# Altium schematic symbol library yu0316-NSC_LDO.SchLib: 2590 symbols (part 49 of 64)
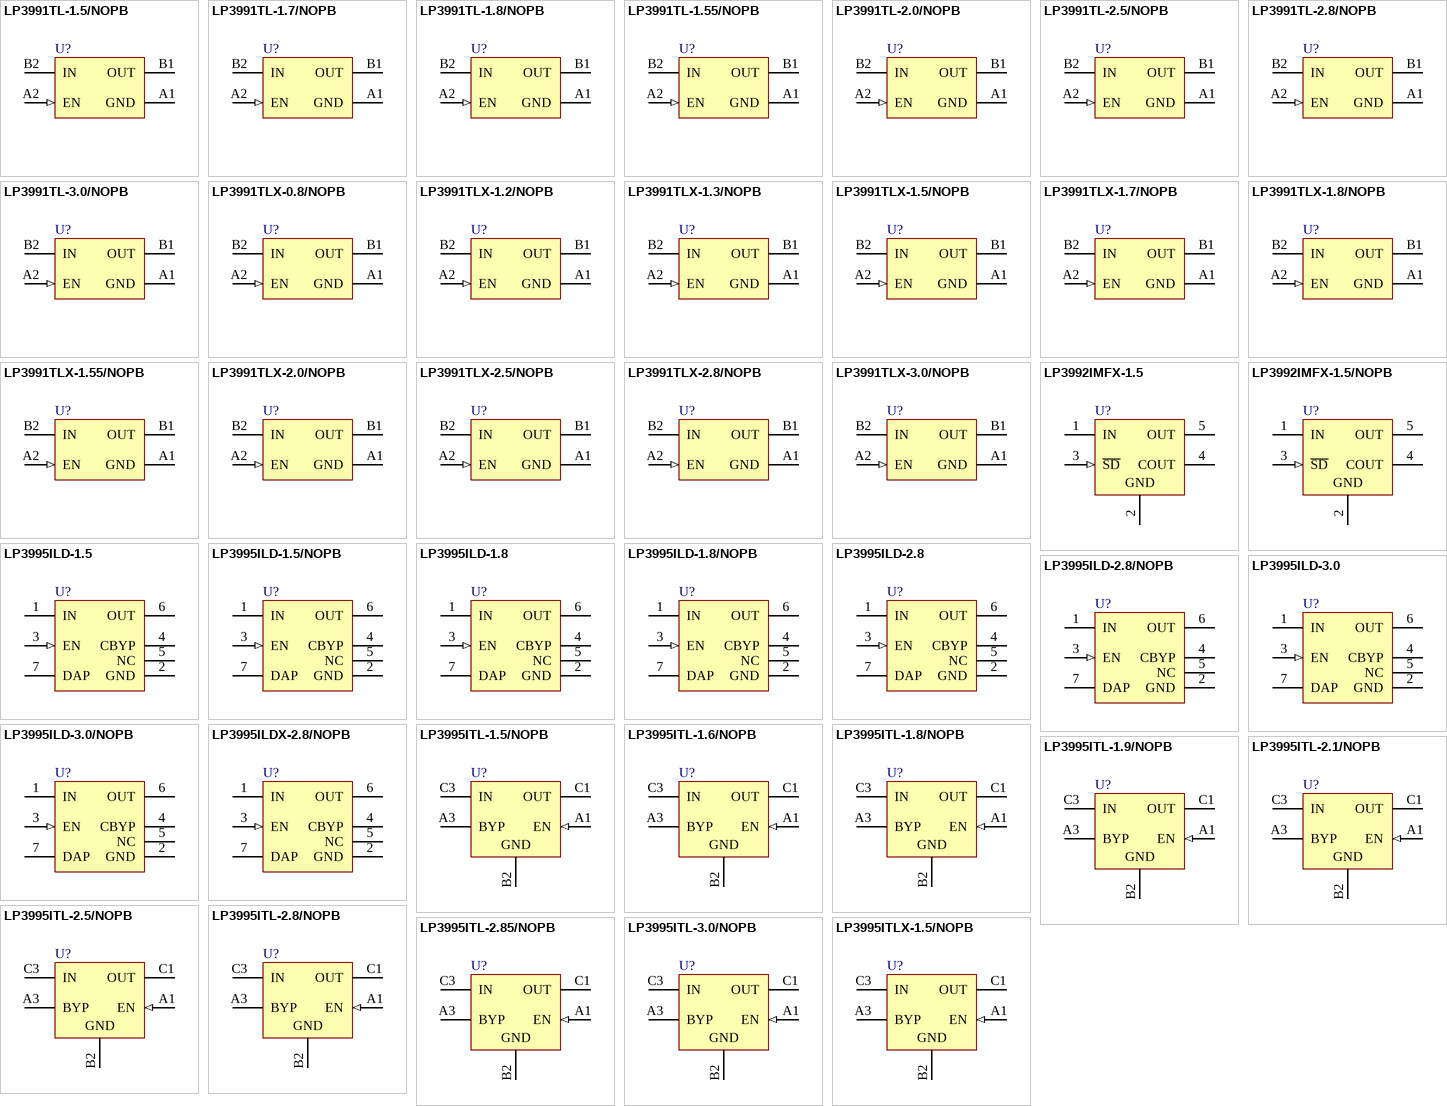
[diagram p113: symbols LP3991TL-1.5/NOPB to LP3995ITLX-1.5/NOPB]

## LP3995ILD-1.5
designator U?
Micropower 150mA CMOS Voltage Regulator with Active Shutdown., 6-pin LLP; PartNumber: LP3995ILD-1.5; Manufacturer: National Semiconductor; PackageTopMarking: ZXYTT*L020B; PowerWise: N; CompType: LDO IC; Published: 4-Dec-2008; DatasheetVersion: Jan-2008; PackageVersion: revA, Jul-2001; PackageReference: LDE06A; Publisher: Altium Limited; PackageDescription: LLP, Plastic, Dual, 2.92 x 3.29 x 0.75mm Body, 6 Lead, 0.95mm Pitch, SOT23 Land; Supplier 1: Farnell; Supplier Part Number 1: 8207259; RoHS: N; PinCount: 6; ComponentLink1Description: LP3995 Datasheet; ComponentLink1URL: http://www.national.com/ds/LP/LP3995.pdf; ComponentLink2Description: LP3995 Web Page; ComponentLink2URL: http://www.national.com/pf/LP/LP3995.html; ComponentLink3Description: LDE06A Package Page; ComponentLink3URL: http://www.national.com/packaging/folders/lde06a.html
footprint LDE06A (PSON, 6-Leads, Body 2.92x3.29 mm, Pitch 0.95mm, NSC Recommended)
pins: 1 IN (power), 2 GND (power), 3 EN (in), 4 CBYP, 5 NC, 6 OUT (power), 7 DAP (power)

## LP3995ILD-1.5/NOPB
designator U?
Micropower 150mA CMOS Voltage Regulator with Active Shutdown., 6-pin LLP, Pb-Free; PartNumber: LP3995ILD-1.5/NOPB; Manufacturer: National Semiconductor; PackageTopMarking: ZXYTT*L020B; PowerWise: N; CompType: LDO IC; Published: 1-Mar-2010; DatasheetVersion: Jan-2008; PackageVersion: revA, Jul-2001; PackageReference: LDE06A; Publisher: Altium Limited; PackageDescription: LLP, Plastic, Dual, 2.92 x 3.29 x 0.75mm Body, 6 Lead, 0.95mm Pitch, SOT23 Land; Supplier 1: Digi-Key; Supplier Part Number 1: LP3995ILD-1.5TR-ND; Supplier 2: Digi-Key; Supplier Part Number 2: LP3995ILD-1.5CT-ND; RoHS: Y; PinCount: 6; ComponentLink1Description: LP3995 Datasheet; ComponentLink1URL: http://www.national.com/ds/LP/LP3995.pdf; ComponentLink2Description: LP3995 Web Page; ComponentLink2URL: http://www.national.com/pf/LP/LP3995.html; ComponentLink3Description: LDE06A Package Page; ComponentLink3URL: http://www.national.com/packaging/folders/lde06a.html
footprint LDE06A (PSON, 6-Leads, Body 2.92x3.29 mm, Pitch 0.95mm, NSC Recommended)
pins: 1 IN (power), 2 GND (power), 3 EN (in), 4 CBYP, 5 NC, 6 OUT (power), 7 DAP (power)

## LP3995ILD-1.8
designator U?
Micropower 150mA CMOS Voltage Regulator with Active Shutdown., 6-pin LLP; PartNumber: LP3995ILD-1.8; Manufacturer: National Semiconductor; PackageTopMarking: ZXYTT*L022B; PowerWise: N; CompType: LDO IC; Published: 4-Dec-2008; DatasheetVersion: Jan-2008; PackageVersion: revA, Jul-2001; PackageReference: LDE06A; Publisher: Altium Limited; PackageDescription: LLP, Plastic, Dual, 2.92 x 3.29 x 0.75mm Body, 6 Lead, 0.95mm Pitch, SOT23 Land; Supplier 1: Farnell; Supplier Part Number 1: 8207275; RoHS: N; PinCount: 6; ComponentLink1Description: LP3995 Datasheet; ComponentLink1URL: http://www.national.com/ds/LP/LP3995.pdf; ComponentLink2Description: LP3995 Web Page; ComponentLink2URL: http://www.national.com/pf/LP/LP3995.html; ComponentLink3Description: LDE06A Package Page; ComponentLink3URL: http://www.national.com/packaging/folders/lde06a.html
footprint LDE06A (PSON, 6-Leads, Body 2.92x3.29 mm, Pitch 0.95mm, NSC Recommended)
pins: 1 IN (power), 2 GND (power), 3 EN (in), 4 CBYP, 5 NC, 6 OUT (power), 7 DAP (power)

## LP3995ILD-1.8/NOPB
designator U?
Micropower 150mA CMOS Voltage Regulator with Active Shutdown., 6-pin LLP, Pb-Free; PartNumber: LP3995ILD-1.8/NOPB; Manufacturer: National Semiconductor; PackageTopMarking: ZXYTT*L022B; PowerWise: N; CompType: LDO IC; Published: 1-Mar-2010; DatasheetVersion: Jan-2008; PackageVersion: revA, Jul-2001; PackageReference: LDE06A; Publisher: Altium Limited; PackageDescription: LLP, Plastic, Dual, 2.92 x 3.29 x 0.75mm Body, 6 Lead, 0.95mm Pitch, SOT23 Land; Supplier 1: Digi-Key; Supplier Part Number 1: LP3995ILD-1.8TR-ND; Supplier 2: Digi-Key; Supplier Part Number 2: LP3995ILD-1.8CT-ND; Supplier 3: Digi-Key; Supplier Part Number 3: LP3995ILD-1.8DKR-ND; RoHS: Y; PinCount: 6; ComponentLink1Description: LP3995 Datasheet; ComponentLink1URL: http://www.national.com/ds/LP/LP3995.pdf; ComponentLink2Description: LP3995 Web Page; ComponentLink2URL: http://www.national.com/pf/LP/LP3995.html; ComponentLink3Description: LDE06A Package Page; ComponentLink3URL: http://www.national.com/packaging/folders/lde06a.html
footprint LDE06A (PSON, 6-Leads, Body 2.92x3.29 mm, Pitch 0.95mm, NSC Recommended)
pins: 1 IN (power), 2 GND (power), 3 EN (in), 4 CBYP, 5 NC, 6 OUT (power), 7 DAP (power)

## LP3995ILD-2.8
designator U?
Micropower 150mA CMOS Voltage Regulator with Active Shutdown., 6-pin LLP; PartNumber: LP3995ILD-2.8; Manufacturer: National Semiconductor; PackageTopMarking: ZXYTT*L026B; PowerWise: N; CompType: LDO IC; Published: 4-Dec-2008; DatasheetVersion: Jan-2008; PackageVersion: revA, Jul-2001; PackageReference: LDE06A; Publisher: Altium Limited; PackageDescription: LLP, Plastic, Dual, 2.92 x 3.29 x 0.75mm Body, 6 Lead, 0.95mm Pitch, SOT23 Land; Supplier 1: Farnell; Supplier Part Number 1: 9490493; RoHS: N; PinCount: 6; ComponentLink1Description: LP3995 Datasheet; ComponentLink1URL: http://www.national.com/ds/LP/LP3995.pdf; ComponentLink2Description: LP3995 Web Page; ComponentLink2URL: http://www.national.com/pf/LP/LP3995.html; ComponentLink3Description: LDE06A Package Page; ComponentLink3URL: http://www.national.com/packaging/folders/lde06a.html
footprint LDE06A (PSON, 6-Leads, Body 2.92x3.29 mm, Pitch 0.95mm, NSC Recommended)
pins: 1 IN (power), 2 GND (power), 3 EN (in), 4 CBYP, 5 NC, 6 OUT (power), 7 DAP (power)

## LP3995ILD-2.8/NOPB
designator U?
Micropower 150mA CMOS Voltage Regulator with Active Shutdown., 6-pin LLP, Pb-Free; PartNumber: LP3995ILD-2.8/NOPB; Manufacturer: National Semiconductor; PackageTopMarking: ZXYTT*L026B; PowerWise: N; CompType: LDO IC; Published: 1-Mar-2010; DatasheetVersion: Jan-2008; PackageVersion: revA, Jul-2001; PackageReference: LDE06A; Publisher: Altium Limited; PackageDescription: LLP, Plastic, Dual, 2.92 x 3.29 x 0.75mm Body, 6 Lead, 0.95mm Pitch, SOT23 Land; Supplier 1: Digi-Key; Supplier Part Number 1: LP3995ILD-2.8TR-ND; Supplier 2: Digi-Key; Supplier Part Number 2: LP3995ILD-2.8CT-ND; Supplier 3: Digi-Key; Supplier Part Number 3: LP3995ILD-2.8DKR-ND; RoHS: Y; PinCount: 6; ComponentLink1Description: LP3995 Datasheet; ComponentLink1URL: http://www.national.com/ds/LP/LP3995.pdf; ComponentLink2Description: LP3995 Web Page; ComponentLink2URL: http://www.national.com/pf/LP/LP3995.html; ComponentLink3Description: LDE06A Package Page; ComponentLink3URL: http://www.national.com/packaging/folders/lde06a.html
footprint LDE06A (PSON, 6-Leads, Body 2.92x3.29 mm, Pitch 0.95mm, NSC Recommended)
pins: 1 IN (power), 2 GND (power), 3 EN (in), 4 CBYP, 5 NC, 6 OUT (power), 7 DAP (power)

## LP3995ILD-3.0
designator U?
Micropower 150mA CMOS Voltage Regulator with Active Shutdown., 6-pin LLP; PartNumber: LP3995ILD-3.0; Manufacturer: National Semiconductor; PackageTopMarking: ZXYTT*L030B; PowerWise: N; CompType: LDO IC; Published: 4-Dec-2008; DatasheetVersion: Jan-2008; PackageVersion: revA, Jul-2001; PackageReference: LDE06A; Publisher: Altium Limited; PackageDescription: LLP, Plastic, Dual, 2.92 x 3.29 x 0.75mm Body, 6 Lead, 0.95mm Pitch, SOT23 Land; Supplier 1: Farnell; Supplier Part Number 1: 8207283; RoHS: N; PinCount: 6; ComponentLink1Description: LP3995 Datasheet; ComponentLink1URL: http://www.national.com/ds/LP/LP3995.pdf; ComponentLink2Description: LP3995 Web Page; ComponentLink2URL: http://www.national.com/pf/LP/LP3995.html; ComponentLink3Description: LDE06A Package Page; ComponentLink3URL: http://www.national.com/packaging/folders/lde06a.html
footprint LDE06A (PSON, 6-Leads, Body 2.92x3.29 mm, Pitch 0.95mm, NSC Recommended)
pins: 1 IN (power), 2 GND (power), 3 EN (in), 4 CBYP, 5 NC, 6 OUT (power), 7 DAP (power)

## LP3995ILD-3.0/NOPB
designator U?
Micropower 150mA CMOS Voltage Regulator with Active Shutdown., 6-pin LLP, Pb-Free; PartNumber: LP3995ILD-3.0/NOPB; Manufacturer: National Semiconductor; PackageTopMarking: ZXYTT*L030B; PowerWise: N; CompType: LDO IC; Published: 1-Mar-2010; DatasheetVersion: Jan-2008; PackageVersion: revA, Jul-2001; PackageReference: LDE06A; Publisher: Altium Limited; PackageDescription: LLP, Plastic, Dual, 2.92 x 3.29 x 0.75mm Body, 6 Lead, 0.95mm Pitch, SOT23 Land; Supplier 1: Digi-Key; Supplier Part Number 1: LP3995ILD-3.0TR-ND; Supplier 2: Digi-Key; Supplier Part Number 2: LP3995ILD-3.0CT-ND; Supplier 3: Digi-Key; Supplier Part Number 3: LP3995ILD-3.0DKR-ND; RoHS: Y; PinCount: 6; ComponentLink1Description: LP3995 Datasheet; ComponentLink1URL: http://www.national.com/ds/LP/LP3995.pdf; ComponentLink2Description: LP3995 Web Page; ComponentLink2URL: http://www.national.com/pf/LP/LP3995.html; ComponentLink3Description: LDE06A Package Page; ComponentLink3URL: http://www.national.com/packaging/folders/lde06a.html
footprint LDE06A (PSON, 6-Leads, Body 2.92x3.29 mm, Pitch 0.95mm, NSC Recommended)
pins: 1 IN (power), 2 GND (power), 3 EN (in), 4 CBYP, 5 NC, 6 OUT (power), 7 DAP (power)

## LP3995ILDX-2.8/NOPB
designator U?
Micropower 150mA CMOS Voltage Regulator with Active Shutdown., 6-pin LLP, Pb-Free; PartNumber: LP3995ILDX-2.8/NOPB; Manufacturer: National Semiconductor; PackageTopMarking: ZXYTT*L026B; PowerWise: N; CompType: LDO IC; Published: 1-Mar-2010; DatasheetVersion: Jan-2008; PackageVersion: revA, Jul-2001; PackageReference: LDE06A; Publisher: Altium Limited; PackageDescription: LLP, Plastic, Dual, 2.92 x 3.29 x 0.75mm Body, 6 Lead, 0.95mm Pitch, SOT23 Land; Supplier 1: Digi-Key; Supplier Part Number 1: LP3995ILDX-2.8-ND; RoHS: Y; PinCount: 6; ComponentLink1Description: LP3995 Datasheet; ComponentLink1URL: http://www.national.com/ds/LP/LP3995.pdf; ComponentLink2Description: LP3995 Web Page; ComponentLink2URL: http://www.national.com/pf/LP/LP3995.html; ComponentLink3Description: LDE06A Package Page; ComponentLink3URL: http://www.national.com/packaging/folders/lde06a.html
footprint LDE06A (PSON, 6-Leads, Body 2.92x3.29 mm, Pitch 0.95mm, NSC Recommended)
pins: 1 IN (power), 2 GND (power), 3 EN (in), 4 CBYP, 5 NC, 6 OUT (power), 7 DAP (power)

## LP3995ITL-1.5/NOPB
designator U?
Micropower 150mA CMOS Voltage Regulator with Active Shutdown., 5-pin Micro SMD, Pb-Free; PartNumber: LP3995ITL-1.5/NOPB; Manufacturer: National Semiconductor; PackageTopMarking: XV*I 9; PowerWise: N; CompType: LDO IC; Published: 1-Mar-2010; DatasheetVersion: Jan-2008; PackageVersion: revC, Feb-2005; PackageReference: TLA05ADA; Publisher: Altium Limited; PackageDescription: Thin Micro SMD, 5 Bump (Large), 0.5mm Pitch; Supplier 1: Digi-Key; Supplier Part Number 1: LP3995ITL-1.5TR-ND; Supplier 2: Digi-Key; Supplier Part Number 2: LP3995ITL-1.5CT-ND; Supplier 3: Digi-Key; Supplier Part Number 3: LP3995ITL-1.5DKR-ND; RoHS: Y; PinCount: 5; ComponentLink1Description: LP3995 Datasheet; ComponentLink1URL: http://www.national.com/ds/LP/LP3995.pdf; ComponentLink2Description: LP3995 Web Page; ComponentLink2URL: http://www.national.com/pf/LP/LP3995.html; ComponentLink3Description: TLA05ADA Package Page; ComponentLink3URL: http://www.national.com/packaging/folders/tla05ada.html
footprint TLA05ADA (Micro SMD, 5-Leads, Body 1.45x1.01mm, Pitch 0.5mm, NSC Recommended)
pins: A1 EN (in), A3 BYP, B2 GND (power), C1 OUT (power), C3 IN (power)

## LP3995ITL-1.6/NOPB
designator U?
Micropower 150mA CMOS Voltage Regulator with Active Shutdown., 5-pin Micro SMD, Pb-Free; PartNumber: LP3995ITL-1.6/NOPB; Manufacturer: National Semiconductor; PackageTopMarking: XV*I 9; PowerWise: N; CompType: LDO IC; Published: 1-Mar-2010; DatasheetVersion: Jan-2008; PackageVersion: revC, Feb-2005; PackageReference: TLA05ADA; Publisher: Altium Limited; PackageDescription: Thin Micro SMD, 5 Bump (Large), 0.5mm Pitch; Supplier 1: Digi-Key; Supplier Part Number 1: LP3995ITL-1.6TR-ND; Supplier 2: Digi-Key; Supplier Part Number 2: LP3995ITL-1.6CT-ND; RoHS: Y; PinCount: 5; ComponentLink1Description: LP3995 Datasheet; ComponentLink1URL: http://www.national.com/ds/LP/LP3995.pdf; ComponentLink2Description: LP3995 Web Page; ComponentLink2URL: http://www.national.com/pf/LP/LP3995.html; ComponentLink3Description: TLA05ADA Package Page; ComponentLink3URL: http://www.national.com/packaging/folders/tla05ada.html
footprint TLA05ADA (Micro SMD, 5-Leads, Body 1.45x1.01mm, Pitch 0.5mm, NSC Recommended)
pins: A1 EN (in), A3 BYP, B2 GND (power), C1 OUT (power), C3 IN (power)

## LP3995ITL-1.8/NOPB
designator U?
Micropower 150mA CMOS Voltage Regulator with Active Shutdown., 5-pin Micro SMD, Pb-Free; PartNumber: LP3995ITL-1.8/NOPB; Manufacturer: National Semiconductor; PackageTopMarking: XV*I 9; PowerWise: N; CompType: LDO IC; Published: 1-Mar-2010; DatasheetVersion: Jan-2008; PackageVersion: revC, Feb-2005; PackageReference: TLA05ADA; Publisher: Altium Limited; PackageDescription: Thin Micro SMD, 5 Bump (Large), 0.5mm Pitch; Supplier 1: Digi-Key; Supplier Part Number 1: LP3995ITL-1.8TR-ND; Supplier 2: Digi-Key; Supplier Part Number 2: LP3995ITL-1.8CT-ND; Supplier 3: Digi-Key; Supplier Part Number 3: LP3995ITL-1.8DKR-ND; RoHS: Y; PinCount: 5; ComponentLink1Description: LP3995 Datasheet; ComponentLink1URL: http://www.national.com/ds/LP/LP3995.pdf; ComponentLink2Description: LP3995 Web Page; ComponentLink2URL: http://www.national.com/pf/LP/LP3995.html; ComponentLink3Description: TLA05ADA Package Page; ComponentLink3URL: http://www.national.com/packaging/folders/tla05ada.html
footprint TLA05ADA (Micro SMD, 5-Leads, Body 1.45x1.01mm, Pitch 0.5mm, NSC Recommended)
pins: A1 EN (in), A3 BYP, B2 GND (power), C1 OUT (power), C3 IN (power)

## LP3995ITL-1.9/NOPB
designator U?
Micropower 150mA CMOS Voltage Regulator with Active Shutdown., 5-pin Micro SMD, Pb-Free; PartNumber: LP3995ITL-1.9/NOPB; Manufacturer: National Semiconductor; PackageTopMarking: XV*I 9; PowerWise: N; CompType: LDO IC; Published: 1-Mar-2010; DatasheetVersion: Jan-2008; PackageVersion: revC, Feb-2005; PackageReference: TLA05ADA; Publisher: Altium Limited; PackageDescription: Thin Micro SMD, 5 Bump (Large), 0.5mm Pitch; Supplier 1: Digi-Key; Supplier Part Number 1: LP3995ITL-1.9TR-ND; Supplier 2: Digi-Key; Supplier Part Number 2: LP3995ITL-1.9CT-ND; Supplier 3: Digi-Key; Supplier Part Number 3: LP3995ITL-1.9DKR-ND; RoHS: Y; PinCount: 5; ComponentLink1Description: LP3995 Datasheet; ComponentLink1URL: http://www.national.com/ds/LP/LP3995.pdf; ComponentLink2Description: LP3995 Web Page; ComponentLink2URL: http://www.national.com/pf/LP/LP3995.html; ComponentLink3Description: TLA05ADA Package Page; ComponentLink3URL: http://www.national.com/packaging/folders/tla05ada.html
footprint TLA05ADA (Micro SMD, 5-Leads, Body 1.45x1.01mm, Pitch 0.5mm, NSC Recommended)
pins: A1 EN (in), A3 BYP, B2 GND (power), C1 OUT (power), C3 IN (power)

## LP3995ITL-2.1/NOPB
designator U?
Micropower 150mA CMOS Voltage Regulator with Active Shutdown., 5-pin Micro SMD, Pb-Free; PartNumber: LP3995ITL-2.1/NOPB; Manufacturer: National Semiconductor; PackageTopMarking: XV*I 9; PowerWise: N; CompType: LDO IC; Published: 1-Mar-2010; DatasheetVersion: Jan-2008; PackageVersion: revC, Feb-2005; PackageReference: TLA05ADA; Publisher: Altium Limited; PackageDescription: Thin Micro SMD, 5 Bump (Large), 0.5mm Pitch; Supplier 1: Digi-Key; Supplier Part Number 1: LP3995ITL-2.1TR-ND; Supplier 2: Digi-Key; Supplier Part Number 2: LP3995ITL-2.1CT-ND; Supplier 3: Digi-Key; Supplier Part Number 3: LP3995ITL-2.1DKR-ND; RoHS: Y; PinCount: 5; ComponentLink1Description: LP3995 Datasheet; ComponentLink1URL: http://www.national.com/ds/LP/LP3995.pdf; ComponentLink2Description: LP3995 Web Page; ComponentLink2URL: http://www.national.com/pf/LP/LP3995.html; ComponentLink3Description: TLA05ADA Package Page; ComponentLink3URL: http://www.national.com/packaging/folders/tla05ada.html
footprint TLA05ADA (Micro SMD, 5-Leads, Body 1.45x1.01mm, Pitch 0.5mm, NSC Recommended)
pins: A1 EN (in), A3 BYP, B2 GND (power), C1 OUT (power), C3 IN (power)

## LP3995ITL-2.5/NOPB
designator U?
Micropower 150mA CMOS Voltage Regulator with Active Shutdown., 5-pin Micro SMD, Pb-Free; PartNumber: LP3995ITL-2.5/NOPB; Manufacturer: National Semiconductor; PackageTopMarking: XV*I 9; PowerWise: N; CompType: LDO IC; Published: 1-Mar-2010; DatasheetVersion: Jan-2008; PackageVersion: revC, Feb-2005; PackageReference: TLA05ADA; Publisher: Altium Limited; PackageDescription: Thin Micro SMD, 5 Bump (Large), 0.5mm Pitch; Supplier 1: Digi-Key; Supplier Part Number 1: LP3995ITL-2.5TR-ND; Supplier 2: Digi-Key; Supplier Part Number 2: LP3995ITL-2.5CT-ND; Supplier 3: Digi-Key; Supplier Part Number 3: LP3995ITL-2.5DKR-ND; RoHS: Y; PinCount: 5; ComponentLink1Description: LP3995 Datasheet; ComponentLink1URL: http://www.national.com/ds/LP/LP3995.pdf; ComponentLink2Description: LP3995 Web Page; ComponentLink2URL: http://www.national.com/pf/LP/LP3995.html; ComponentLink3Description: TLA05ADA Package Page; ComponentLink3URL: http://www.national.com/packaging/folders/tla05ada.html
footprint TLA05ADA (Micro SMD, 5-Leads, Body 1.45x1.01mm, Pitch 0.5mm, NSC Recommended)
pins: A1 EN (in), A3 BYP, B2 GND (power), C1 OUT (power), C3 IN (power)

## LP3995ITL-2.8/NOPB
designator U?
Micropower 150mA CMOS Voltage Regulator with Active Shutdown., 5-pin Micro SMD, Pb-Free; PartNumber: LP3995ITL-2.8/NOPB; Manufacturer: National Semiconductor; PackageTopMarking: XV*I 9; PowerWise: N; CompType: LDO IC; Published: 1-Mar-2010; DatasheetVersion: Jan-2008; PackageVersion: revC, Feb-2005; PackageReference: TLA05ADA; Publisher: Altium Limited; PackageDescription: Thin Micro SMD, 5 Bump (Large), 0.5mm Pitch; Supplier 1: Digi-Key; Supplier Part Number 1: LP3995ITL-2.8TR-ND; Supplier 2: Digi-Key; Supplier Part Number 2: LP3995ITL-2.8CT-ND; Supplier 3: Digi-Key; Supplier Part Number 3: LP3995ITL-2.8DKR-ND; RoHS: Y; PinCount: 5; ComponentLink1Description: LP3995 Datasheet; ComponentLink1URL: http://www.national.com/ds/LP/LP3995.pdf; ComponentLink2Description: LP3995 Web Page; ComponentLink2URL: http://www.national.com/pf/LP/LP3995.html; ComponentLink3Description: TLA05ADA Package Page; ComponentLink3URL: http://www.national.com/packaging/folders/tla05ada.html
footprint TLA05ADA (Micro SMD, 5-Leads, Body 1.45x1.01mm, Pitch 0.5mm, NSC Recommended)
pins: A1 EN (in), A3 BYP, B2 GND (power), C1 OUT (power), C3 IN (power)

## LP3995ITL-2.85/NOPB
designator U?
Micropower 150mA CMOS Voltage Regulator with Active Shutdown., 5-pin Micro SMD, Pb-Free; PartNumber: LP3995ITL-2.85/NOPB; Manufacturer: National Semiconductor; PackageTopMarking: XV*I 9; PowerWise: N; CompType: LDO IC; Published: 1-Mar-2010; DatasheetVersion: Jan-2008; PackageVersion: revC, Feb-2005; PackageReference: TLA05ADA; Publisher: Altium Limited; PackageDescription: Thin Micro SMD, 5 Bump (Large), 0.5mm Pitch; Supplier 1: Digi-Key; Supplier Part Number 1: LP3995ITL-2.85TR-ND; Supplier 2: Digi-Key; Supplier Part Number 2: LP3995ITL-2.85CT-ND; Supplier 3: Digi-Key; Supplier Part Number 3: LP3995ITL-2.85DKR-ND; RoHS: Y; PinCount: 5; ComponentLink1Description: LP3995 Datasheet; ComponentLink1URL: http://www.national.com/ds/LP/LP3995.pdf; ComponentLink2Description: LP3995 Web Page; ComponentLink2URL: http://www.national.com/pf/LP/LP3995.html; ComponentLink3Description: TLA05ADA Package Page; ComponentLink3URL: http://www.national.com/packaging/folders/tla05ada.html
footprint TLA05ADA (Micro SMD, 5-Leads, Body 1.45x1.01mm, Pitch 0.5mm, NSC Recommended)
pins: A1 EN (in), A3 BYP, B2 GND (power), C1 OUT (power), C3 IN (power)

## LP3995ITL-3.0/NOPB
designator U?
Micropower 150mA CMOS Voltage Regulator with Active Shutdown., 5-pin Micro SMD, Pb-Free; PartNumber: LP3995ITL-3.0/NOPB; Manufacturer: National Semiconductor; PackageTopMarking: XV*I 9; PowerWise: N; CompType: LDO IC; Published: 1-Mar-2010; DatasheetVersion: Jan-2008; PackageVersion: revC, Feb-2005; PackageReference: TLA05ADA; Publisher: Altium Limited; PackageDescription: Thin Micro SMD, 5 Bump (Large), 0.5mm Pitch; Supplier 1: Digi-Key; Supplier Part Number 1: LP3995ITL-3.0TR-ND; Supplier 2: Digi-Key; Supplier Part Number 2: LP3995ITL-3.0CT-ND; Supplier 3: Digi-Key; Supplier Part Number 3: LP3995ITL-3.0DKR-ND; RoHS: Y; PinCount: 5; ComponentLink1Description: LP3995 Datasheet; ComponentLink1URL: http://www.national.com/ds/LP/LP3995.pdf; ComponentLink2Description: LP3995 Web Page; ComponentLink2URL: http://www.national.com/pf/LP/LP3995.html; ComponentLink3Description: TLA05ADA Package Page; ComponentLink3URL: http://www.national.com/packaging/folders/tla05ada.html
footprint TLA05ADA (Micro SMD, 5-Leads, Body 1.45x1.01mm, Pitch 0.5mm, NSC Recommended)
pins: A1 EN (in), A3 BYP, B2 GND (power), C1 OUT (power), C3 IN (power)

## LP3995ITLX-1.5/NOPB
designator U?
Micropower 150mA CMOS Voltage Regulator with Active Shutdown., 5-pin Micro SMD, Pb-Free; PartNumber: LP3995ITLX-1.5/NOPB; Manufacturer: National Semiconductor; PackageTopMarking: XV*I 9; PowerWise: N; CompType: LDO IC; Published: 1-Mar-2010; DatasheetVersion: Jan-2008; PackageVersion: revC, Feb-2005; PackageReference: TLA05ADA; Publisher: Altium Limited; PackageDescription: Thin Micro SMD, 5 Bump (Large), 0.5mm Pitch; Supplier 1: Digi-Key; Supplier Part Number 1: LP3995ITLX-1.5-ND; RoHS: Y; PinCount: 5; ComponentLink1Description: LP3995 Datasheet; ComponentLink1URL: http://www.national.com/ds/LP/LP3995.pdf; ComponentLink2Description: LP3995 Web Page; ComponentLink2URL: http://www.national.com/pf/LP/LP3995.html; ComponentLink3Description: TLA05ADA Package Page; ComponentLink3URL: http://www.national.com/packaging/folders/tla05ada.html
footprint TLA05ADA (Micro SMD, 5-Leads, Body 1.45x1.01mm, Pitch 0.5mm, NSC Recommended)
pins: A1 EN (in), A3 BYP, B2 GND (power), C1 OUT (power), C3 IN (power)

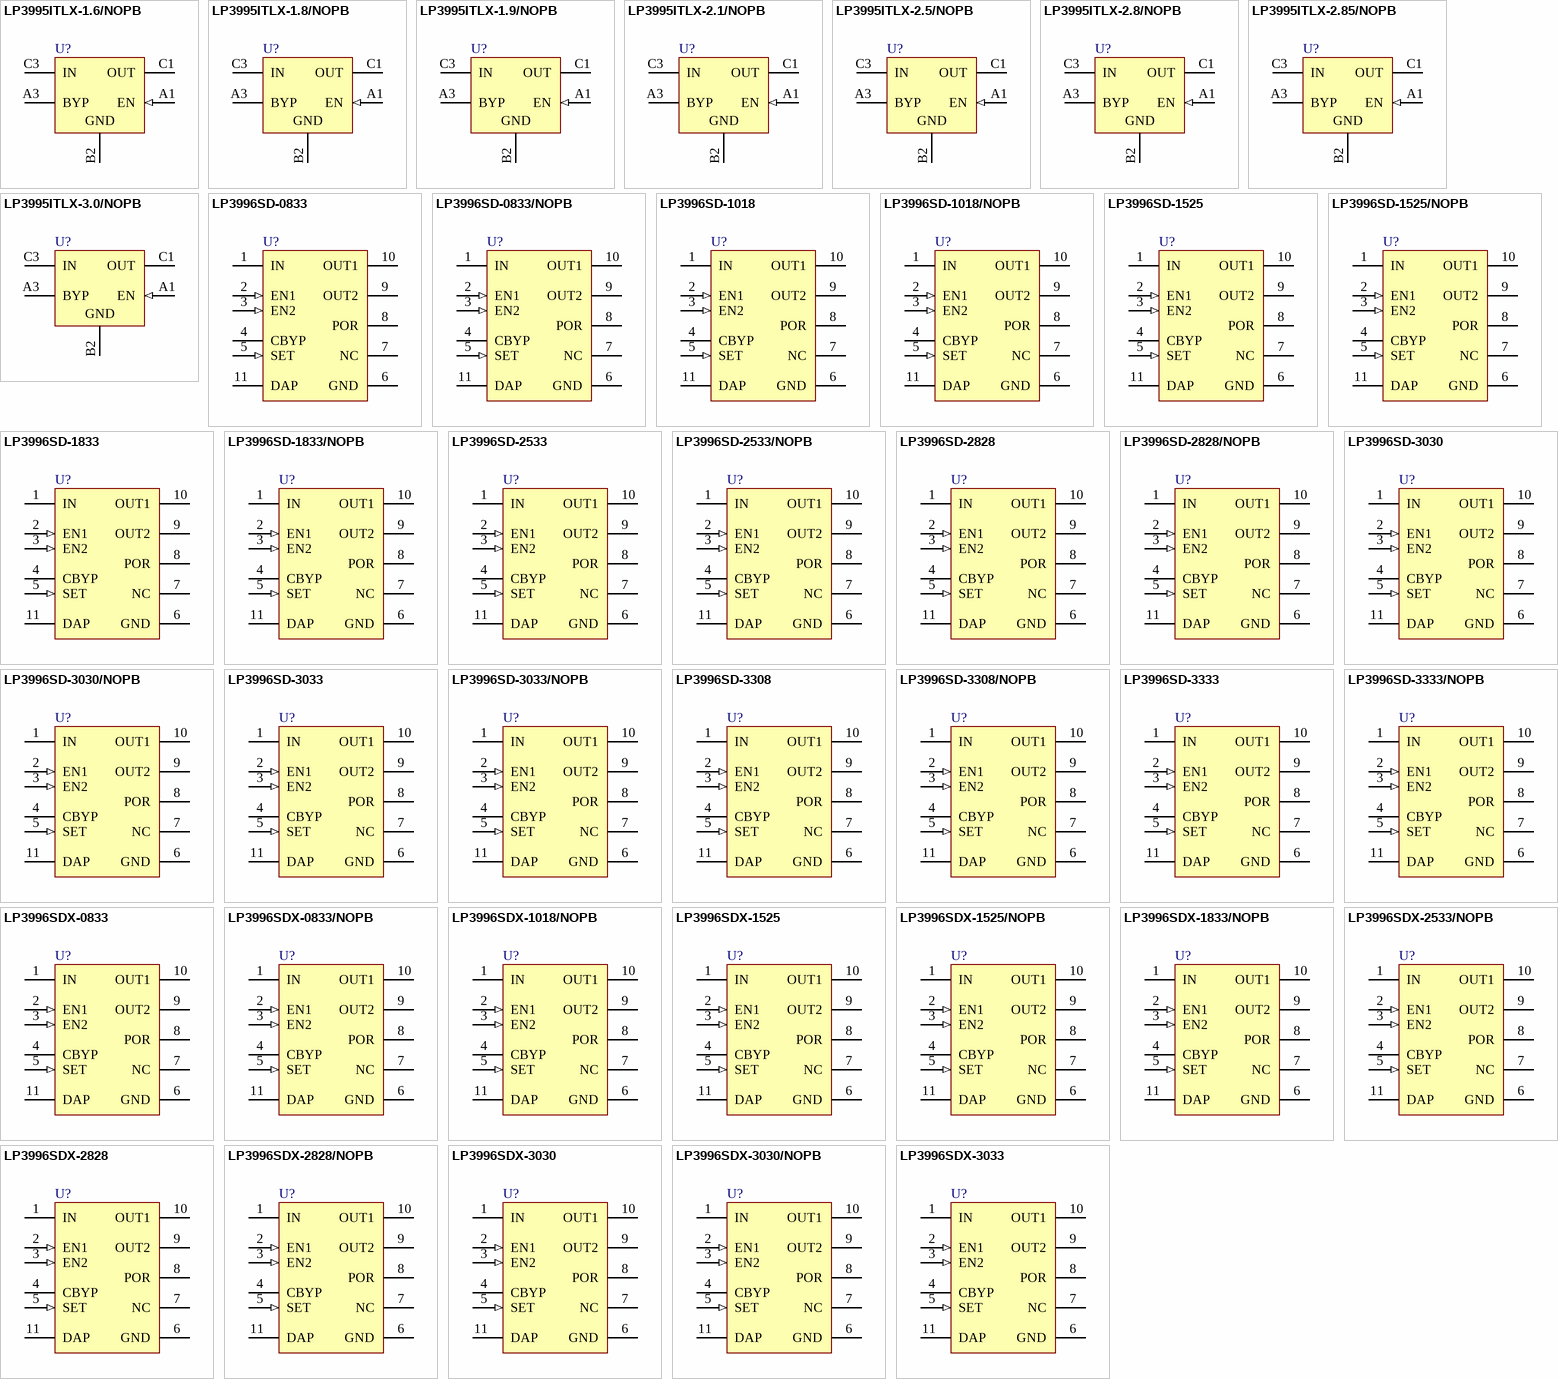
[diagram p50: symbols LP3995ITLX-1.6/NOPB to LP3996SDX-3033]

## LP3995ITLX-1.6/NOPB
designator U?
Micropower 150mA CMOS Voltage Regulator with Active Shutdown., 5-pin Micro SMD, Pb-Free; PartNumber: LP3995ITLX-1.6/NOPB; Manufacturer: National Semiconductor; PackageTopMarking: XV*I 9; PowerWise: N; CompType: LDO IC; Published: 1-Mar-2010; DatasheetVersion: Jan-2008; PackageVersion: revC, Feb-2005; PackageReference: TLA05ADA; Publisher: Altium Limited; PackageDescription: Thin Micro SMD, 5 Bump (Large), 0.5mm Pitch; Supplier 1: Digi-Key; Supplier Part Number 1: LP3995ITLX-1.6-ND; RoHS: Y; PinCount: 5; ComponentLink1Description: LP3995 Datasheet; ComponentLink1URL: http://www.national.com/ds/LP/LP3995.pdf; ComponentLink2Description: LP3995 Web Page; ComponentLink2URL: http://www.national.com/pf/LP/LP3995.html; ComponentLink3Description: TLA05ADA Package Page; ComponentLink3URL: http://www.national.com/packaging/folders/tla05ada.html
footprint TLA05ADA (Micro SMD, 5-Leads, Body 1.45x1.01mm, Pitch 0.5mm, NSC Recommended)
pins: A1 EN (in), A3 BYP, B2 GND (power), C1 OUT (power), C3 IN (power)

## LP3995ITLX-1.8/NOPB
designator U?
Micropower 150mA CMOS Voltage Regulator with Active Shutdown., 5-pin Micro SMD, Pb-Free; PartNumber: LP3995ITLX-1.8/NOPB; Manufacturer: National Semiconductor; PackageTopMarking: XV*I 9; PowerWise: N; CompType: LDO IC; Published: 1-Mar-2010; DatasheetVersion: Jan-2008; PackageVersion: revC, Feb-2005; PackageReference: TLA05ADA; Publisher: Altium Limited; PackageDescription: Thin Micro SMD, 5 Bump (Large), 0.5mm Pitch; Supplier 1: Digi-Key; Supplier Part Number 1: LP3995ITLX-1.8-ND; RoHS: Y; PinCount: 5; ComponentLink1Description: LP3995 Datasheet; ComponentLink1URL: http://www.national.com/ds/LP/LP3995.pdf; ComponentLink2Description: LP3995 Web Page; ComponentLink2URL: http://www.national.com/pf/LP/LP3995.html; ComponentLink3Description: TLA05ADA Package Page; ComponentLink3URL: http://www.national.com/packaging/folders/tla05ada.html
footprint TLA05ADA (Micro SMD, 5-Leads, Body 1.45x1.01mm, Pitch 0.5mm, NSC Recommended)
pins: A1 EN (in), A3 BYP, B2 GND (power), C1 OUT (power), C3 IN (power)

## LP3995ITLX-1.9/NOPB
designator U?
Micropower 150mA CMOS Voltage Regulator with Active Shutdown., 5-pin Micro SMD, Pb-Free; PartNumber: LP3995ITLX-1.9/NOPB; Manufacturer: National Semiconductor; PackageTopMarking: XV*I 9; PowerWise: N; CompType: LDO IC; Published: 1-Mar-2010; DatasheetVersion: Jan-2008; PackageVersion: revC, Feb-2005; PackageReference: TLA05ADA; Publisher: Altium Limited; PackageDescription: Thin Micro SMD, 5 Bump (Large), 0.5mm Pitch; Supplier 1: Digi-Key; Supplier Part Number 1: LP3995ITLX-1.9-ND; RoHS: Y; PinCount: 5; ComponentLink1Description: LP3995 Datasheet; ComponentLink1URL: http://www.national.com/ds/LP/LP3995.pdf; ComponentLink2Description: LP3995 Web Page; ComponentLink2URL: http://www.national.com/pf/LP/LP3995.html; ComponentLink3Description: TLA05ADA Package Page; ComponentLink3URL: http://www.national.com/packaging/folders/tla05ada.html
footprint TLA05ADA (Micro SMD, 5-Leads, Body 1.45x1.01mm, Pitch 0.5mm, NSC Recommended)
pins: A1 EN (in), A3 BYP, B2 GND (power), C1 OUT (power), C3 IN (power)

## LP3995ITLX-2.1/NOPB
designator U?
Micropower 150mA CMOS Voltage Regulator with Active Shutdown., 5-pin Micro SMD, Pb-Free; PartNumber: LP3995ITLX-2.1/NOPB; Manufacturer: National Semiconductor; PackageTopMarking: XV*I 9; PowerWise: N; CompType: LDO IC; Published: 1-Mar-2010; DatasheetVersion: Jan-2008; PackageVersion: revC, Feb-2005; PackageReference: TLA05ADA; Publisher: Altium Limited; PackageDescription: Thin Micro SMD, 5 Bump (Large), 0.5mm Pitch; Supplier 1: Digi-Key; Supplier Part Number 1: LP3995ITLX-2.1-ND; RoHS: Y; PinCount: 5; ComponentLink1Description: LP3995 Datasheet; ComponentLink1URL: http://www.national.com/ds/LP/LP3995.pdf; ComponentLink2Description: LP3995 Web Page; ComponentLink2URL: http://www.national.com/pf/LP/LP3995.html; ComponentLink3Description: TLA05ADA Package Page; ComponentLink3URL: http://www.national.com/packaging/folders/tla05ada.html
footprint TLA05ADA (Micro SMD, 5-Leads, Body 1.45x1.01mm, Pitch 0.5mm, NSC Recommended)
pins: A1 EN (in), A3 BYP, B2 GND (power), C1 OUT (power), C3 IN (power)

## LP3995ITLX-2.5/NOPB
designator U?
Micropower 150mA CMOS Voltage Regulator with Active Shutdown., 5-pin Micro SMD, Pb-Free; PartNumber: LP3995ITLX-2.5/NOPB; Manufacturer: National Semiconductor; PackageTopMarking: XV*I 9; PowerWise: N; CompType: LDO IC; Published: 1-Mar-2010; DatasheetVersion: Jan-2008; PackageVersion: revC, Feb-2005; PackageReference: TLA05ADA; Publisher: Altium Limited; PackageDescription: Thin Micro SMD, 5 Bump (Large), 0.5mm Pitch; Supplier 1: Digi-Key; Supplier Part Number 1: LP3995ITLX-2.5-ND; RoHS: Y; PinCount: 5; ComponentLink1Description: LP3995 Datasheet; ComponentLink1URL: http://www.national.com/ds/LP/LP3995.pdf; ComponentLink2Description: LP3995 Web Page; ComponentLink2URL: http://www.national.com/pf/LP/LP3995.html; ComponentLink3Description: TLA05ADA Package Page; ComponentLink3URL: http://www.national.com/packaging/folders/tla05ada.html
footprint TLA05ADA (Micro SMD, 5-Leads, Body 1.45x1.01mm, Pitch 0.5mm, NSC Recommended)
pins: A1 EN (in), A3 BYP, B2 GND (power), C1 OUT (power), C3 IN (power)

## LP3995ITLX-2.8/NOPB
designator U?
Micropower 150mA CMOS Voltage Regulator with Active Shutdown., 5-pin Micro SMD, Pb-Free; PartNumber: LP3995ITLX-2.8/NOPB; Manufacturer: National Semiconductor; PackageTopMarking: XV*I 9; PowerWise: N; CompType: LDO IC; Published: 1-Mar-2010; DatasheetVersion: Jan-2008; PackageVersion: revC, Feb-2005; PackageReference: TLA05ADA; Publisher: Altium Limited; PackageDescription: Thin Micro SMD, 5 Bump (Large), 0.5mm Pitch; Supplier 1: Digi-Key; Supplier Part Number 1: LP3995ITLX-2.8-ND; RoHS: Y; PinCount: 5; ComponentLink1Description: LP3995 Datasheet; ComponentLink1URL: http://www.national.com/ds/LP/LP3995.pdf; ComponentLink2Description: LP3995 Web Page; ComponentLink2URL: http://www.national.com/pf/LP/LP3995.html; ComponentLink3Description: TLA05ADA Package Page; ComponentLink3URL: http://www.national.com/packaging/folders/tla05ada.html
footprint TLA05ADA (Micro SMD, 5-Leads, Body 1.45x1.01mm, Pitch 0.5mm, NSC Recommended)
pins: A1 EN (in), A3 BYP, B2 GND (power), C1 OUT (power), C3 IN (power)

## LP3995ITLX-2.85/NOPB
designator U?
Micropower 150mA CMOS Voltage Regulator with Active Shutdown., 5-pin Micro SMD, Pb-Free; PartNumber: LP3995ITLX-2.85/NOPB; Manufacturer: National Semiconductor; PackageTopMarking: XV*I 9; PowerWise: N; CompType: LDO IC; Published: 1-Mar-2010; DatasheetVersion: Jan-2008; PackageVersion: revC, Feb-2005; PackageReference: TLA05ADA; Publisher: Altium Limited; PackageDescription: Thin Micro SMD, 5 Bump (Large), 0.5mm Pitch; Supplier 1: Digi-Key; Supplier Part Number 1: LP3995ITLX-2.85-ND; RoHS: Y; PinCount: 5; ComponentLink1Description: LP3995 Datasheet; ComponentLink1URL: http://www.national.com/ds/LP/LP3995.pdf; ComponentLink2Description: LP3995 Web Page; ComponentLink2URL: http://www.national.com/pf/LP/LP3995.html; ComponentLink3Description: TLA05ADA Package Page; ComponentLink3URL: http://www.national.com/packaging/folders/tla05ada.html
footprint TLA05ADA (Micro SMD, 5-Leads, Body 1.45x1.01mm, Pitch 0.5mm, NSC Recommended)
pins: A1 EN (in), A3 BYP, B2 GND (power), C1 OUT (power), C3 IN (power)

## LP3995ITLX-3.0/NOPB
designator U?
Micropower 150mA CMOS Voltage Regulator with Active Shutdown., 5-pin Micro SMD, Pb-Free; PartNumber: LP3995ITLX-3.0/NOPB; Manufacturer: National Semiconductor; PackageTopMarking: XV*I 9; PowerWise: N; CompType: LDO IC; Published: 1-Mar-2010; DatasheetVersion: Jan-2008; PackageVersion: revC, Feb-2005; PackageReference: TLA05ADA; Publisher: Altium Limited; PackageDescription: Thin Micro SMD, 5 Bump (Large), 0.5mm Pitch; Supplier 1: Digi-Key; Supplier Part Number 1: LP3995ITLX-3.0-ND; RoHS: Y; PinCount: 5; ComponentLink1Description: LP3995 Datasheet; ComponentLink1URL: http://www.national.com/ds/LP/LP3995.pdf; ComponentLink2Description: LP3995 Web Page; ComponentLink2URL: http://www.national.com/pf/LP/LP3995.html; ComponentLink3Description: TLA05ADA Package Page; ComponentLink3URL: http://www.national.com/packaging/folders/tla05ada.html
footprint TLA05ADA (Micro SMD, 5-Leads, Body 1.45x1.01mm, Pitch 0.5mm, NSC Recommended)
pins: A1 EN (in), A3 BYP, B2 GND (power), C1 OUT (power), C3 IN (power)

## LP3996SD-0833
designator U?
Dual Linear Regulator with 300mA and 150mA Outputs and Power-On-Reset, 10-pin LLP; PartNumber: LP3996SD-0833; Manufacturer: National Semiconductor; PackageTopMarking: ZXYTT*L167B; PowerWise: N; CompType: LDO IC; Published: 4-Dec-2008; DatasheetVersion: Jan-2008; PackageVersion: revA, Oct-2003; PackageReference: SDA10A; Publisher: Altium Limited; PackageDescription: LLP, Plastic, Dual, 3 x 3 x 0.8mm Body, 10 Lead, 0.5mm Pitch, No Pullback; Supplier 1: Farnell; Supplier Part Number 1: 1312632; RoHS: N; PinCount: 10; ComponentLink1Description: LP3996 Datasheet; ComponentLink1URL: http://www.national.com/ds/LP/LP3996.pdf; ComponentLink2Description: LP3996 Web Page; ComponentLink2URL: http://www.national.com/pf/LP/LP3996.html; ComponentLink3Description: SDA10A Package Page; ComponentLink3URL: http://www.national.com/packaging/folders/sda10a.html
footprint SDA10A (SON, 10-Leads, Body 3x3 mm, Pitch 0.5mm, NSC Recommended)
pins: 1 IN (power), 2 EN1 (in), 3 EN2 (in), 4 CBYP, 5 SET (in), 6 GND (power), 7 NC, 8 POR (oc), 9 OUT2 (power), 10 OUT1 (power), 11 DAP (power)

## LP3996SD-0833/NOPB
designator U?
Dual Linear Regulator with 300mA and 150mA Outputs and Power-On-Reset, 10-pin LLP, Pb-Free; PartNumber: LP3996SD-0833/NOPB; Manufacturer: National Semiconductor; PackageTopMarking: ZXYTT*L167B; PowerWise: N; CompType: LDO IC; Published: 1-Mar-2010; DatasheetVersion: Jan-2008; PackageVersion: revA, Oct-2003; PackageReference: SDA10A; Publisher: Altium Limited; PackageDescription: LLP, Plastic, Dual, 3 x 3 x 0.8mm Body, 10 Lead, 0.5mm Pitch, No Pullback; Supplier 1: Digi-Key; Supplier Part Number 1: LP3996SD-0833TR-ND; Supplier 2: Digi-Key; Supplier Part Number 2: LP3996SD-0833CT-ND; RoHS: Y; PinCount: 10; ComponentLink1Description: LP3996 Datasheet; ComponentLink1URL: http://www.national.com/ds/LP/LP3996.pdf; ComponentLink2Description: LP3996 Web Page; ComponentLink2URL: http://www.national.com/pf/LP/LP3996.html; ComponentLink3Description: SDA10A Package Page; ComponentLink3URL: http://www.national.com/packaging/folders/sda10a.html
footprint SDA10A (SON, 10-Leads, Body 3x3 mm, Pitch 0.5mm, NSC Recommended)
pins: 1 IN (power), 2 EN1 (in), 3 EN2 (in), 4 CBYP, 5 SET (in), 6 GND (power), 7 NC, 8 POR (oc), 9 OUT2 (power), 10 OUT1 (power), 11 DAP (power)

## LP3996SD-1018
designator U?
Dual Linear Regulator with 300mA and 150mA Outputs and Power-On-Reset, 10-pin LLP; PartNumber: LP3996SD-1018; Manufacturer: National Semiconductor; PackageTopMarking: ZXYTT*L227B; PowerWise: N; CompType: LDO IC; Published: 4-Dec-2008; DatasheetVersion: Jan-2008; PackageVersion: revA, Oct-2003; PackageReference: SDA10A; Publisher: Altium Limited; PackageDescription: LLP, Plastic, Dual, 3 x 3 x 0.8mm Body, 10 Lead, 0.5mm Pitch, No Pullback; RoHS: Y; PinCount: 10; ComponentLink1Description: LP3996 Datasheet; ComponentLink1URL: http://www.national.com/ds/LP/LP3996.pdf; ComponentLink2Description: LP3996 Web Page; ComponentLink2URL: http://www.national.com/pf/LP/LP3996.html; ComponentLink3Description: SDA10A Package Page; ComponentLink3URL: http://www.national.com/packaging/folders/sda10a.html
footprint SDA10A (SON, 10-Leads, Body 3x3 mm, Pitch 0.5mm, NSC Recommended)
pins: 1 IN (power), 2 EN1 (in), 3 EN2 (in), 4 CBYP, 5 SET (in), 6 GND (power), 7 NC, 8 POR (oc), 9 OUT2 (power), 10 OUT1 (power), 11 DAP (power)

## LP3996SD-1018/NOPB
designator U?
Dual Linear Regulator with 300mA and 150mA Outputs and Power-On-Reset, 10-pin LLP, Pb-Free; PartNumber: LP3996SD-1018/NOPB; Manufacturer: National Semiconductor; PackageTopMarking: ZXYTT*L227B; PowerWise: N; CompType: LDO IC; Published: 1-Mar-2010; DatasheetVersion: Jan-2008; PackageVersion: revA, Oct-2003; PackageReference: SDA10A; Publisher: Altium Limited; PackageDescription: LLP, Plastic, Dual, 3 x 3 x 0.8mm Body, 10 Lead, 0.5mm Pitch, No Pullback; Supplier 1: Digi-Key; Supplier Part Number 1: LP3996SD-1018/NOPBTR-ND; Supplier 2: Digi-Key; Supplier Part Number 2: LP3996SD-1018/NOPBCT-ND; Supplier 3: Digi-Key; Supplier Part Number 3: LP3996SD-1018/NOPBDKR-ND; RoHS: Y; PinCount: 10; ComponentLink1Description: LP3996 Datasheet; ComponentLink1URL: http://www.national.com/ds/LP/LP3996.pdf; ComponentLink2Description: LP3996 Web Page; ComponentLink2URL: http://www.national.com/pf/LP/LP3996.html; ComponentLink3Description: SDA10A Package Page; ComponentLink3URL: http://www.national.com/packaging/folders/sda10a.html
footprint SDA10A (SON, 10-Leads, Body 3x3 mm, Pitch 0.5mm, NSC Recommended)
pins: 1 IN (power), 2 EN1 (in), 3 EN2 (in), 4 CBYP, 5 SET (in), 6 GND (power), 7 NC, 8 POR (oc), 9 OUT2 (power), 10 OUT1 (power), 11 DAP (power)

## LP3996SD-1525
designator U?
Dual Linear Regulator with 300mA and 150mA Outputs and Power-On-Reset, 10-pin LLP; PartNumber: LP3996SD-1525; Manufacturer: National Semiconductor; PackageTopMarking: ZXYTT*L168B; PowerWise: N; CompType: LDO IC; Published: 4-Dec-2008; DatasheetVersion: Jan-2008; PackageVersion: revA, Oct-2003; PackageReference: SDA10A; Publisher: Altium Limited; PackageDescription: LLP, Plastic, Dual, 3 x 3 x 0.8mm Body, 10 Lead, 0.5mm Pitch, No Pullback; Supplier 1: Farnell; Supplier Part Number 1: 1312633; RoHS: N; PinCount: 10; ComponentLink1Description: LP3996 Datasheet; ComponentLink1URL: http://www.national.com/ds/LP/LP3996.pdf; ComponentLink2Description: LP3996 Web Page; ComponentLink2URL: http://www.national.com/pf/LP/LP3996.html; ComponentLink3Description: SDA10A Package Page; ComponentLink3URL: http://www.national.com/packaging/folders/sda10a.html
footprint SDA10A (SON, 10-Leads, Body 3x3 mm, Pitch 0.5mm, NSC Recommended)
pins: 1 IN (power), 2 EN1 (in), 3 EN2 (in), 4 CBYP, 5 SET (in), 6 GND (power), 7 NC, 8 POR (oc), 9 OUT2 (power), 10 OUT1 (power), 11 DAP (power)

## LP3996SD-1525/NOPB
designator U?
Dual Linear Regulator with 300mA and 150mA Outputs and Power-On-Reset, 10-pin LLP, Pb-Free; PartNumber: LP3996SD-1525/NOPB; Manufacturer: National Semiconductor; PackageTopMarking: ZXYTT*L168B; PowerWise: N; CompType: LDO IC; Published: 1-Mar-2010; DatasheetVersion: Jan-2008; PackageVersion: revA, Oct-2003; PackageReference: SDA10A; Publisher: Altium Limited; PackageDescription: LLP, Plastic, Dual, 3 x 3 x 0.8mm Body, 10 Lead, 0.5mm Pitch, No Pullback; Supplier 1: Digi-Key; Supplier Part Number 1: LP3996SD-1525TR-ND; Supplier 2: Digi-Key; Supplier Part Number 2: LP3996SD-1525CT-ND; RoHS: Y; PinCount: 10; ComponentLink1Description: LP3996 Datasheet; ComponentLink1URL: http://www.national.com/ds/LP/LP3996.pdf; ComponentLink2Description: LP3996 Web Page; ComponentLink2URL: http://www.national.com/pf/LP/LP3996.html; ComponentLink3Description: SDA10A Package Page; ComponentLink3URL: http://www.national.com/packaging/folders/sda10a.html
footprint SDA10A (SON, 10-Leads, Body 3x3 mm, Pitch 0.5mm, NSC Recommended)
pins: 1 IN (power), 2 EN1 (in), 3 EN2 (in), 4 CBYP, 5 SET (in), 6 GND (power), 7 NC, 8 POR (oc), 9 OUT2 (power), 10 OUT1 (power), 11 DAP (power)

## LP3996SD-1833
designator U?
Dual Linear Regulator with 300mA and 150mA Outputs and Power-On-Reset, 10-pin LLP; PartNumber: LP3996SD-1833; Manufacturer: National Semiconductor; PackageTopMarking: ZXYTT*L228B; PowerWise: N; CompType: LDO IC; Published: 4-Dec-2008; DatasheetVersion: Jan-2008; PackageVersion: revA, Oct-2003; PackageReference: SDA10A; Publisher: Altium Limited; PackageDescription: LLP, Plastic, Dual, 3 x 3 x 0.8mm Body, 10 Lead, 0.5mm Pitch, No Pullback; RoHS: Y; PinCount: 10; ComponentLink1Description: LP3996 Datasheet; ComponentLink1URL: http://www.national.com/ds/LP/LP3996.pdf; ComponentLink2Description: LP3996 Web Page; ComponentLink2URL: http://www.national.com/pf/LP/LP3996.html; ComponentLink3Description: SDA10A Package Page; ComponentLink3URL: http://www.national.com/packaging/folders/sda10a.html
footprint SDA10A (SON, 10-Leads, Body 3x3 mm, Pitch 0.5mm, NSC Recommended)
pins: 1 IN (power), 2 EN1 (in), 3 EN2 (in), 4 CBYP, 5 SET (in), 6 GND (power), 7 NC, 8 POR (oc), 9 OUT2 (power), 10 OUT1 (power), 11 DAP (power)

## LP3996SD-1833/NOPB
designator U?
Dual Linear Regulator with 300mA and 150mA Outputs and Power-On-Reset, 10-pin LLP, Pb-Free; PartNumber: LP3996SD-1833/NOPB; Manufacturer: National Semiconductor; PackageTopMarking: ZXYTT*L228B; PowerWise: N; CompType: LDO IC; Published: 1-Mar-2010; DatasheetVersion: Jan-2008; PackageVersion: revA, Oct-2003; PackageReference: SDA10A; Publisher: Altium Limited; PackageDescription: LLP, Plastic, Dual, 3 x 3 x 0.8mm Body, 10 Lead, 0.5mm Pitch, No Pullback; Supplier 1: Digi-Key; Supplier Part Number 1: LP3996SD-1833TR-ND; Supplier 2: Digi-Key; Supplier Part Number 2: LP3996SD-1833CT-ND; Supplier 3: Digi-Key; Supplier Part Number 3: LP3996SD-1833DKR-ND; RoHS: Y; PinCount: 10; ComponentLink1Description: LP3996 Datasheet; ComponentLink1URL: http://www.national.com/ds/LP/LP3996.pdf; ComponentLink2Description: LP3996 Web Page; ComponentLink2URL: http://www.national.com/pf/LP/LP3996.html; ComponentLink3Description: SDA10A Package Page; ComponentLink3URL: http://www.national.com/packaging/folders/sda10a.html
footprint SDA10A (SON, 10-Leads, Body 3x3 mm, Pitch 0.5mm, NSC Recommended)
pins: 1 IN (power), 2 EN1 (in), 3 EN2 (in), 4 CBYP, 5 SET (in), 6 GND (power), 7 NC, 8 POR (oc), 9 OUT2 (power), 10 OUT1 (power), 11 DAP (power)

## LP3996SD-2533
designator U?
Dual Linear Regulator with 300mA and 150mA Outputs and Power-On-Reset, 10-pin LLP; PartNumber: LP3996SD-2533; Manufacturer: National Semiconductor; PackageTopMarking: ZXYTT*L229B; PowerWise: N; CompType: LDO IC; Published: 4-Dec-2008; DatasheetVersion: Jan-2008; PackageVersion: revA, Oct-2003; PackageReference: SDA10A; Publisher: Altium Limited; PackageDescription: LLP, Plastic, Dual, 3 x 3 x 0.8mm Body, 10 Lead, 0.5mm Pitch, No Pullback; RoHS: Y; PinCount: 10; ComponentLink1Description: LP3996 Datasheet; ComponentLink1URL: http://www.national.com/ds/LP/LP3996.pdf; ComponentLink2Description: LP3996 Web Page; ComponentLink2URL: http://www.national.com/pf/LP/LP3996.html; ComponentLink3Description: SDA10A Package Page; ComponentLink3URL: http://www.national.com/packaging/folders/sda10a.html
footprint SDA10A (SON, 10-Leads, Body 3x3 mm, Pitch 0.5mm, NSC Recommended)
pins: 1 IN (power), 2 EN1 (in), 3 EN2 (in), 4 CBYP, 5 SET (in), 6 GND (power), 7 NC, 8 POR (oc), 9 OUT2 (power), 10 OUT1 (power), 11 DAP (power)

## LP3996SD-2533/NOPB
designator U?
Dual Linear Regulator with 300mA and 150mA Outputs and Power-On-Reset, 10-pin LLP, Pb-Free; PartNumber: LP3996SD-2533/NOPB; Manufacturer: National Semiconductor; PackageTopMarking: ZXYTT*L229B; PowerWise: N; CompType: LDO IC; Published: 1-Mar-2010; DatasheetVersion: Jan-2008; PackageVersion: revA, Oct-2003; PackageReference: SDA10A; Publisher: Altium Limited; PackageDescription: LLP, Plastic, Dual, 3 x 3 x 0.8mm Body, 10 Lead, 0.5mm Pitch, No Pullback; Supplier 1: Digi-Key; Supplier Part Number 1: LP3996SD-2533/NOPBTR-ND; Supplier 2: Digi-Key; Supplier Part Number 2: LP3996SD-2533/NOPBCT-ND; Supplier 3: Digi-Key; Supplier Part Number 3: LP3996SD-2533/NOPBDKR-ND; RoHS: Y; PinCount: 10; ComponentLink1Description: LP3996 Datasheet; ComponentLink1URL: http://www.national.com/ds/LP/LP3996.pdf; ComponentLink2Description: LP3996 Web Page; ComponentLink2URL: http://www.national.com/pf/LP/LP3996.html; ComponentLink3Description: SDA10A Package Page; ComponentLink3URL: http://www.national.com/packaging/folders/sda10a.html
footprint SDA10A (SON, 10-Leads, Body 3x3 mm, Pitch 0.5mm, NSC Recommended)
pins: 1 IN (power), 2 EN1 (in), 3 EN2 (in), 4 CBYP, 5 SET (in), 6 GND (power), 7 NC, 8 POR (oc), 9 OUT2 (power), 10 OUT1 (power), 11 DAP (power)

## LP3996SD-2828
designator U?
Dual Linear Regulator with 300mA and 150mA Outputs and Power-On-Reset, 10-pin LLP; PartNumber: LP3996SD-2828; Manufacturer: National Semiconductor; PackageTopMarking: ZXYTT*L171B; PowerWise: N; CompType: LDO IC; Published: 4-Dec-2008; DatasheetVersion: Jan-2008; PackageVersion: revA, Oct-2003; PackageReference: SDA10A; Publisher: Altium Limited; PackageDescription: LLP, Plastic, Dual, 3 x 3 x 0.8mm Body, 10 Lead, 0.5mm Pitch, No Pullback; Supplier 1: Farnell; Supplier Part Number 1: 1312634; RoHS: N; PinCount: 10; ComponentLink1Description: LP3996 Datasheet; ComponentLink1URL: http://www.national.com/ds/LP/LP3996.pdf; ComponentLink2Description: LP3996 Web Page; ComponentLink2URL: http://www.national.com/pf/LP/LP3996.html; ComponentLink3Description: SDA10A Package Page; ComponentLink3URL: http://www.national.com/packaging/folders/sda10a.html
footprint SDA10A (SON, 10-Leads, Body 3x3 mm, Pitch 0.5mm, NSC Recommended)
pins: 1 IN (power), 2 EN1 (in), 3 EN2 (in), 4 CBYP, 5 SET (in), 6 GND (power), 7 NC, 8 POR (oc), 9 OUT2 (power), 10 OUT1 (power), 11 DAP (power)

## LP3996SD-2828/NOPB
designator U?
Dual Linear Regulator with 300mA and 150mA Outputs and Power-On-Reset, 10-pin LLP, Pb-Free; PartNumber: LP3996SD-2828/NOPB; Manufacturer: National Semiconductor; PackageTopMarking: ZXYTT*L171B; PowerWise: N; CompType: LDO IC; Published: 1-Mar-2010; DatasheetVersion: Jan-2008; PackageVersion: revA, Oct-2003; PackageReference: SDA10A; Publisher: Altium Limited; PackageDescription: LLP, Plastic, Dual, 3 x 3 x 0.8mm Body, 10 Lead, 0.5mm Pitch, No Pullback; Supplier 1: Digi-Key; Supplier Part Number 1: LP3996SD-2828TR-ND; Supplier 2: Digi-Key; Supplier Part Number 2: LP3996SD-2828CT-ND; RoHS: Y; PinCount: 10; ComponentLink1Description: LP3996 Datasheet; ComponentLink1URL: http://www.national.com/ds/LP/LP3996.pdf; ComponentLink2Description: LP3996 Web Page; ComponentLink2URL: http://www.national.com/pf/LP/LP3996.html; ComponentLink3Description: SDA10A Package Page; ComponentLink3URL: http://www.national.com/packaging/folders/sda10a.html
footprint SDA10A (SON, 10-Leads, Body 3x3 mm, Pitch 0.5mm, NSC Recommended)
pins: 1 IN (power), 2 EN1 (in), 3 EN2 (in), 4 CBYP, 5 SET (in), 6 GND (power), 7 NC, 8 POR (oc), 9 OUT2 (power), 10 OUT1 (power), 11 DAP (power)

## LP3996SD-3030
designator U?
Dual Linear Regulator with 300mA and 150mA Outputs and Power-On-Reset, 10-pin LLP; PartNumber: LP3996SD-3030; Manufacturer: National Semiconductor; PackageTopMarking: ZXYTT*L172B; PowerWise: N; CompType: LDO IC; Published: 4-Dec-2008; DatasheetVersion: Jan-2008; PackageVersion: revA, Oct-2003; PackageReference: SDA10A; Publisher: Altium Limited; PackageDescription: LLP, Plastic, Dual, 3 x 3 x 0.8mm Body, 10 Lead, 0.5mm Pitch, No Pullback; Supplier 1: Farnell; Supplier Part Number 1: 1312635; RoHS: N; PinCount: 10; ComponentLink1Description: LP3996 Datasheet; ComponentLink1URL: http://www.national.com/ds/LP/LP3996.pdf; ComponentLink2Description: LP3996 Web Page; ComponentLink2URL: http://www.national.com/pf/LP/LP3996.html; ComponentLink3Description: SDA10A Package Page; ComponentLink3URL: http://www.national.com/packaging/folders/sda10a.html
footprint SDA10A (SON, 10-Leads, Body 3x3 mm, Pitch 0.5mm, NSC Recommended)
pins: 1 IN (power), 2 EN1 (in), 3 EN2 (in), 4 CBYP, 5 SET (in), 6 GND (power), 7 NC, 8 POR (oc), 9 OUT2 (power), 10 OUT1 (power), 11 DAP (power)

## LP3996SD-3030/NOPB
designator U?
Dual Linear Regulator with 300mA and 150mA Outputs and Power-On-Reset, 10-pin LLP, Pb-Free; PartNumber: LP3996SD-3030/NOPB; Manufacturer: National Semiconductor; PackageTopMarking: ZXYTT*L172B; PowerWise: N; CompType: LDO IC; Published: 1-Mar-2010; DatasheetVersion: Jan-2008; PackageVersion: revA, Oct-2003; PackageReference: SDA10A; Publisher: Altium Limited; PackageDescription: LLP, Plastic, Dual, 3 x 3 x 0.8mm Body, 10 Lead, 0.5mm Pitch, No Pullback; Supplier 1: Digi-Key; Supplier Part Number 1: LP3996SD-3030TR-ND; Supplier 2: Digi-Key; Supplier Part Number 2: LP3996SD-3030CT-ND; RoHS: Y; PinCount: 10; ComponentLink1Description: LP3996 Datasheet; ComponentLink1URL: http://www.national.com/ds/LP/LP3996.pdf; ComponentLink2Description: LP3996 Web Page; ComponentLink2URL: http://www.national.com/pf/LP/LP3996.html; ComponentLink3Description: SDA10A Package Page; ComponentLink3URL: http://www.national.com/packaging/folders/sda10a.html
footprint SDA10A (SON, 10-Leads, Body 3x3 mm, Pitch 0.5mm, NSC Recommended)
pins: 1 IN (power), 2 EN1 (in), 3 EN2 (in), 4 CBYP, 5 SET (in), 6 GND (power), 7 NC, 8 POR (oc), 9 OUT2 (power), 10 OUT1 (power), 11 DAP (power)

## LP3996SD-3033
designator U?
Dual Linear Regulator with 300mA and 150mA Outputs and Power-On-Reset, 10-pin LLP; PartNumber: LP3996SD-3033; Manufacturer: National Semiconductor; PackageTopMarking: ZXYTT*L170B; PowerWise: N; CompType: LDO IC; Published: 4-Dec-2008; DatasheetVersion: Jan-2008; PackageVersion: revA, Oct-2003; PackageReference: SDA10A; Publisher: Altium Limited; PackageDescription: LLP, Plastic, Dual, 3 x 3 x 0.8mm Body, 10 Lead, 0.5mm Pitch, No Pullback; Supplier 1: Farnell; Supplier Part Number 1: 1312636; RoHS: N; PinCount: 10; ComponentLink1Description: LP3996 Datasheet; ComponentLink1URL: http://www.national.com/ds/LP/LP3996.pdf; ComponentLink2Description: LP3996 Web Page; ComponentLink2URL: http://www.national.com/pf/LP/LP3996.html; ComponentLink3Description: SDA10A Package Page; ComponentLink3URL: http://www.national.com/packaging/folders/sda10a.html
footprint SDA10A (SON, 10-Leads, Body 3x3 mm, Pitch 0.5mm, NSC Recommended)
pins: 1 IN (power), 2 EN1 (in), 3 EN2 (in), 4 CBYP, 5 SET (in), 6 GND (power), 7 NC, 8 POR (oc), 9 OUT2 (power), 10 OUT1 (power), 11 DAP (power)

## LP3996SD-3033/NOPB
designator U?
Dual Linear Regulator with 300mA and 150mA Outputs and Power-On-Reset, 10-pin LLP, Pb-Free; PartNumber: LP3996SD-3033/NOPB; Manufacturer: National Semiconductor; PackageTopMarking: ZXYTT*L170B; PowerWise: N; CompType: LDO IC; Published: 1-Mar-2010; DatasheetVersion: Jan-2008; PackageVersion: revA, Oct-2003; PackageReference: SDA10A; Publisher: Altium Limited; PackageDescription: LLP, Plastic, Dual, 3 x 3 x 0.8mm Body, 10 Lead, 0.5mm Pitch, No Pullback; Supplier 1: Digi-Key; Supplier Part Number 1: LP3996SD-3033TR-ND; Supplier 2: Digi-Key; Supplier Part Number 2: LP3996SD-3033CT-ND; RoHS: Y; PinCount: 10; ComponentLink1Description: LP3996 Datasheet; ComponentLink1URL: http://www.national.com/ds/LP/LP3996.pdf; ComponentLink2Description: LP3996 Web Page; ComponentLink2URL: http://www.national.com/pf/LP/LP3996.html; ComponentLink3Description: SDA10A Package Page; ComponentLink3URL: http://www.national.com/packaging/folders/sda10a.html
footprint SDA10A (SON, 10-Leads, Body 3x3 mm, Pitch 0.5mm, NSC Recommended)
pins: 1 IN (power), 2 EN1 (in), 3 EN2 (in), 4 CBYP, 5 SET (in), 6 GND (power), 7 NC, 8 POR (oc), 9 OUT2 (power), 10 OUT1 (power), 11 DAP (power)

## LP3996SD-3308
designator U?
Dual Linear Regulator with 300mA and 150mA Outputs and Power-On-Reset, 10-pin LLP; PartNumber: LP3996SD-3308; Manufacturer: National Semiconductor; PackageTopMarking: ZXYTT*L188B; PowerWise: N; CompType: LDO IC; Published: 4-Dec-2008; DatasheetVersion: Jan-2008; PackageVersion: revA, Oct-2003; PackageReference: SDA10A; Publisher: Altium Limited; PackageDescription: LLP, Plastic, Dual, 3 x 3 x 0.8mm Body, 10 Lead, 0.5mm Pitch, No Pullback; Supplier 1: Farnell; Supplier Part Number 1: 1312638; RoHS: N; PinCount: 10; ComponentLink1Description: LP3996 Datasheet; ComponentLink1URL: http://www.national.com/ds/LP/LP3996.pdf; ComponentLink2Description: LP3996 Web Page; ComponentLink2URL: http://www.national.com/pf/LP/LP3996.html; ComponentLink3Description: SDA10A Package Page; ComponentLink3URL: http://www.national.com/packaging/folders/sda10a.html
footprint SDA10A (SON, 10-Leads, Body 3x3 mm, Pitch 0.5mm, NSC Recommended)
pins: 1 IN (power), 2 EN1 (in), 3 EN2 (in), 4 CBYP, 5 SET (in), 6 GND (power), 7 NC, 8 POR (oc), 9 OUT2 (power), 10 OUT1 (power), 11 DAP (power)